# Altium schematic symbol library kmilo17pet-PIC16_Part2.SchLib: 1569 symbols (part 20 of 56)
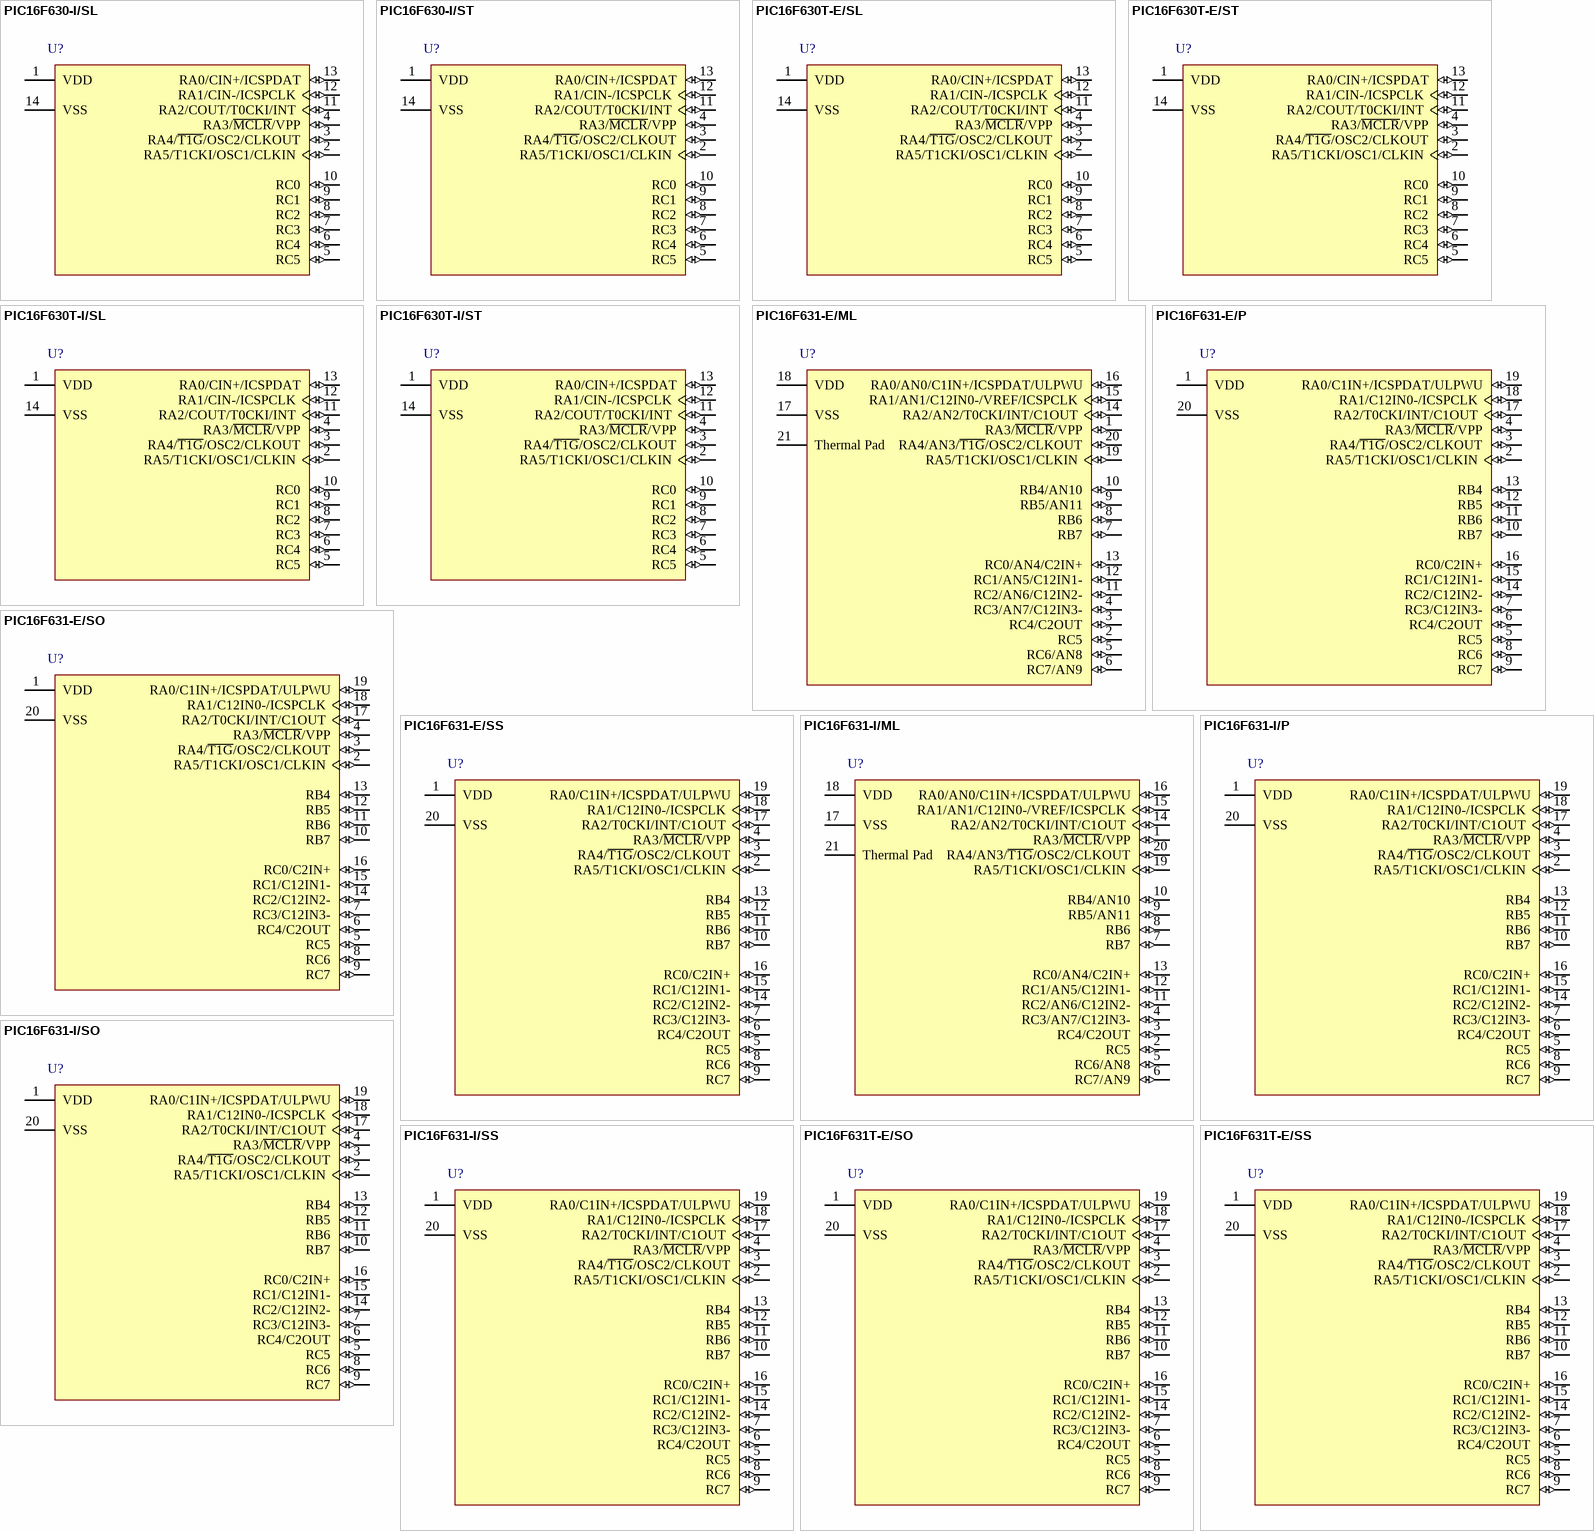
[diagram p144: symbols PIC16F630-I/SL to PIC16F631T-E/SS]

## PIC16F631-I/SO
designator U?
Flash-Based, 8-Bit CMOS Microcontroller with nanoWatt Technology, 1K (x14-Bit words) Program Memory, 192 Bytes Data Memory, 18 I/O pins, 20-Pin SOIC, Standard VDD Range, Industrial Temperature; Manufacturer: Microchip; PartNumber: PIC16F631-I/SO; DatasheetVersion: revE, Mar-2008; PackageVersion: revBB, Aug-2009; PackageReference: SOIC-SO20; PackageDescription: 20-Lead Plastic Small Outline (SO) - Wide 7.50mm Body [SOIC]; Supplier 1: Digi-Key; Supplier Part Number 1: PIC16F631-I/SO-ND; Supplier 2: Farnell; Supplier Part Number 2: 1332203; Supplier 3: Newark; Supplier Part Number 3: 56J7501; Supplier 4: Newark; Supplier Part Number 4: 34M7982; Supplier 5: Mouser; Supplier Part Number 5: 579-PIC16F631-I/SO; Code_JEDEC: MS-013-AC; Code_IPC: SOIC127P1030-20; ComponentLink1Description: Manufacturer URL; ComponentLink1URL: http://www.microchip.com/; ComponentLink2Description: Datasheet; ComponentLink2URL: http://ww1.microchip.com/downloads/en/DeviceDoc/41262E.pdf; ComponentLink3Description: Package Specification; ComponentLink3URL: http://www.microchip.com/stellent/groups/techpub_sg/documents/packagingspec/en012702.pdf
footprint SOIC-SO20_N (SOIC, 20-Leads, Body 12.8x7.5mm, Pitch 1.27mm, IPC Medium Density)
footprint SOIC-SO20_L (SOIC, 20-Leads, Body 12.8x7.5mm, Pitch 1.27mm, IPC High Density)
footprint SOIC-SO20_M (SOIC, 20-Leads, Body 12.8x7.5mm, Pitch 1.27mm, IPC Low Density)
pins: 1 VDD (power), 2 RA5/T1CKI/OSC1/CLKIN (io), 3 RA4/~{T1G}/OSC2/CLKOUT (io), 4 RA3/~{MCLR}/VPP (io), 5 RC5 (io), 6 RC4/C2OUT (io), 7 RC3/C12IN3- (io), 8 RC6 (io), 9 RC7 (io), 10 RB7 (io), 11 RB6 (io), 12 RB5 (io), 13 RB4 (io), 14 RC2/C12IN2- (io), 15 RC1/C12IN1- (io), 16 RC0/C2IN+ (io), 17 RA2/T0CKI/INT/C1OUT (io), 18 RA1/C12IN0-/ICSPCLK (io), 19 RA0/C1IN+/ICSPDAT/ULPWU (io), 20 VSS (power)

## PIC16F631-I/SS
designator U?
Flash-Based, 8-Bit CMOS Microcontroller with nanoWatt Technology, 1K (x14-Bit words) Program Memory, 192 Bytes Data Memory, 18 I/O pins, 20-Pin SSOP, Standard VDD Range, Industrial Temperature; Manufacturer: Microchip; PartNumber: PIC16F631-I/SS; DatasheetVersion: revE, Mar-2008; PackageVersion: revBB, Aug-2009; PackageReference: SSOP-SS20; PackageDescription: 20-Lead Plastic Shrink Small Outline (SS) - 5.3mm Body [SSOP]; Supplier 1: Digi-Key; Supplier Part Number 1: PIC16F631-I/SS-ND; Supplier 2: Farnell; Supplier Part Number 2: 1332204; Supplier 3: Newark; Supplier Part Number 3: 56J7502; Supplier 4: Mouser; Supplier Part Number 4: 579-PIC16F631-I/SS; Code_JEDEC: MO-150; ComponentLink1Description: Manufacturer URL; ComponentLink1URL: http://www.microchip.com/; ComponentLink2Description: Datasheet; ComponentLink2URL: http://ww1.microchip.com/downloads/en/DeviceDoc/41262E.pdf; ComponentLink3Description: Package Specification; ComponentLink3URL: http://www.microchip.com/stellent/groups/techpub_sg/documents/packagingspec/en012702.pdf
footprint SSOP-SS20_N (SOP, 20-Leads, Body 7.2x5.2mm, Pitch 0.65mm, IPC Medium Density)
footprint SSOP-SS20_L (SOP, 20-Leads, Body 7.2x5.2mm, Pitch 0.65mm, IPC High Density)
footprint SSOP-SS20_M (SOP, 20-Leads, Body 7.2x5.2mm, Pitch 0.65mm, IPC Low Density)
pins: 1 VDD (power), 2 RA5/T1CKI/OSC1/CLKIN (io), 3 RA4/~{T1G}/OSC2/CLKOUT (io), 4 RA3/~{MCLR}/VPP (io), 5 RC5 (io), 6 RC4/C2OUT (io), 7 RC3/C12IN3- (io), 8 RC6 (io), 9 RC7 (io), 10 RB7 (io), 11 RB6 (io), 12 RB5 (io), 13 RB4 (io), 14 RC2/C12IN2- (io), 15 RC1/C12IN1- (io), 16 RC0/C2IN+ (io), 17 RA2/T0CKI/INT/C1OUT (io), 18 RA1/C12IN0-/ICSPCLK (io), 19 RA0/C1IN+/ICSPDAT/ULPWU (io), 20 VSS (power)

## PIC16F631T-E/SO
designator U?
Flash-Based, 8-Bit CMOS Microcontroller with nanoWatt Technology, 1K (x14-Bit words) Program Memory, 192 Bytes Data Memory, 18 I/O pins, 20-Pin SOIC, Standard VDD Range, Extended Temperature, Tape and Reel; Manufacturer: Microchip; PartNumber: PIC16F631T-E/SO; DatasheetVersion: revE, Mar-2008; PackageVersion: revBB, Aug-2009; PackageReference: SOIC-SO20; PackageDescription: 20-Lead Plastic Small Outline (SO) - Wide 7.50mm Body [SOIC]; Code_JEDEC: MS-013-AC; Code_IPC: SOIC127P1030-20; ComponentLink1Description: Manufacturer URL; ComponentLink1URL: http://www.microchip.com/; ComponentLink2Description: Datasheet; ComponentLink2URL: http://ww1.microchip.com/downloads/en/DeviceDoc/41262E.pdf; ComponentLink3Description: Package Specification; ComponentLink3URL: http://www.microchip.com/stellent/groups/techpub_sg/documents/packagingspec/en012702.pdf
footprint SOIC-SO20_N (SOIC, 20-Leads, Body 12.8x7.5mm, Pitch 1.27mm, IPC Medium Density)
footprint SOIC-SO20_L (SOIC, 20-Leads, Body 12.8x7.5mm, Pitch 1.27mm, IPC High Density)
footprint SOIC-SO20_M (SOIC, 20-Leads, Body 12.8x7.5mm, Pitch 1.27mm, IPC Low Density)
pins: 1 VDD (power), 2 RA5/T1CKI/OSC1/CLKIN (io), 3 RA4/~{T1G}/OSC2/CLKOUT (io), 4 RA3/~{MCLR}/VPP (io), 5 RC5 (io), 6 RC4/C2OUT (io), 7 RC3/C12IN3- (io), 8 RC6 (io), 9 RC7 (io), 10 RB7 (io), 11 RB6 (io), 12 RB5 (io), 13 RB4 (io), 14 RC2/C12IN2- (io), 15 RC1/C12IN1- (io), 16 RC0/C2IN+ (io), 17 RA2/T0CKI/INT/C1OUT (io), 18 RA1/C12IN0-/ICSPCLK (io), 19 RA0/C1IN+/ICSPDAT/ULPWU (io), 20 VSS (power)

## PIC16F631T-E/SS
designator U?
Flash-Based, 8-Bit CMOS Microcontroller with nanoWatt Technology, 1K (x14-Bit words) Program Memory, 192 Bytes Data Memory, 18 I/O pins, 20-Pin SSOP, Standard VDD Range, Extended Temperature, Tape and Reel; Manufacturer: Microchip; PartNumber: PIC16F631T-E/SS; DatasheetVersion: revE, Mar-2008; PackageVersion: revBB, Aug-2009; PackageReference: SSOP-SS20; PackageDescription: 20-Lead Plastic Shrink Small Outline (SS) - 5.3mm Body [SSOP]; Supplier 1: Digi-Key; Supplier Part Number 1: PIC16F631T-E/SS-ND; Supplier 2: Mouser; Supplier Part Number 2: 579-PIC16F631T-E/SS; Code_JEDEC: MO-150; ComponentLink1Description: Manufacturer URL; ComponentLink1URL: http://www.microchip.com/; ComponentLink2Description: Datasheet; ComponentLink2URL: http://ww1.microchip.com/downloads/en/DeviceDoc/41262E.pdf; ComponentLink3Description: Package Specification; ComponentLink3URL: http://www.microchip.com/stellent/groups/techpub_sg/documents/packagingspec/en012702.pdf
footprint SSOP-SS20_N (SOP, 20-Leads, Body 7.2x5.2mm, Pitch 0.65mm, IPC Medium Density)
footprint SSOP-SS20_L (SOP, 20-Leads, Body 7.2x5.2mm, Pitch 0.65mm, IPC High Density)
footprint SSOP-SS20_M (SOP, 20-Leads, Body 7.2x5.2mm, Pitch 0.65mm, IPC Low Density)
pins: 1 VDD (power), 2 RA5/T1CKI/OSC1/CLKIN (io), 3 RA4/~{T1G}/OSC2/CLKOUT (io), 4 RA3/~{MCLR}/VPP (io), 5 RC5 (io), 6 RC4/C2OUT (io), 7 RC3/C12IN3- (io), 8 RC6 (io), 9 RC7 (io), 10 RB7 (io), 11 RB6 (io), 12 RB5 (io), 13 RB4 (io), 14 RC2/C12IN2- (io), 15 RC1/C12IN1- (io), 16 RC0/C2IN+ (io), 17 RA2/T0CKI/INT/C1OUT (io), 18 RA1/C12IN0-/ICSPCLK (io), 19 RA0/C1IN+/ICSPDAT/ULPWU (io), 20 VSS (power)

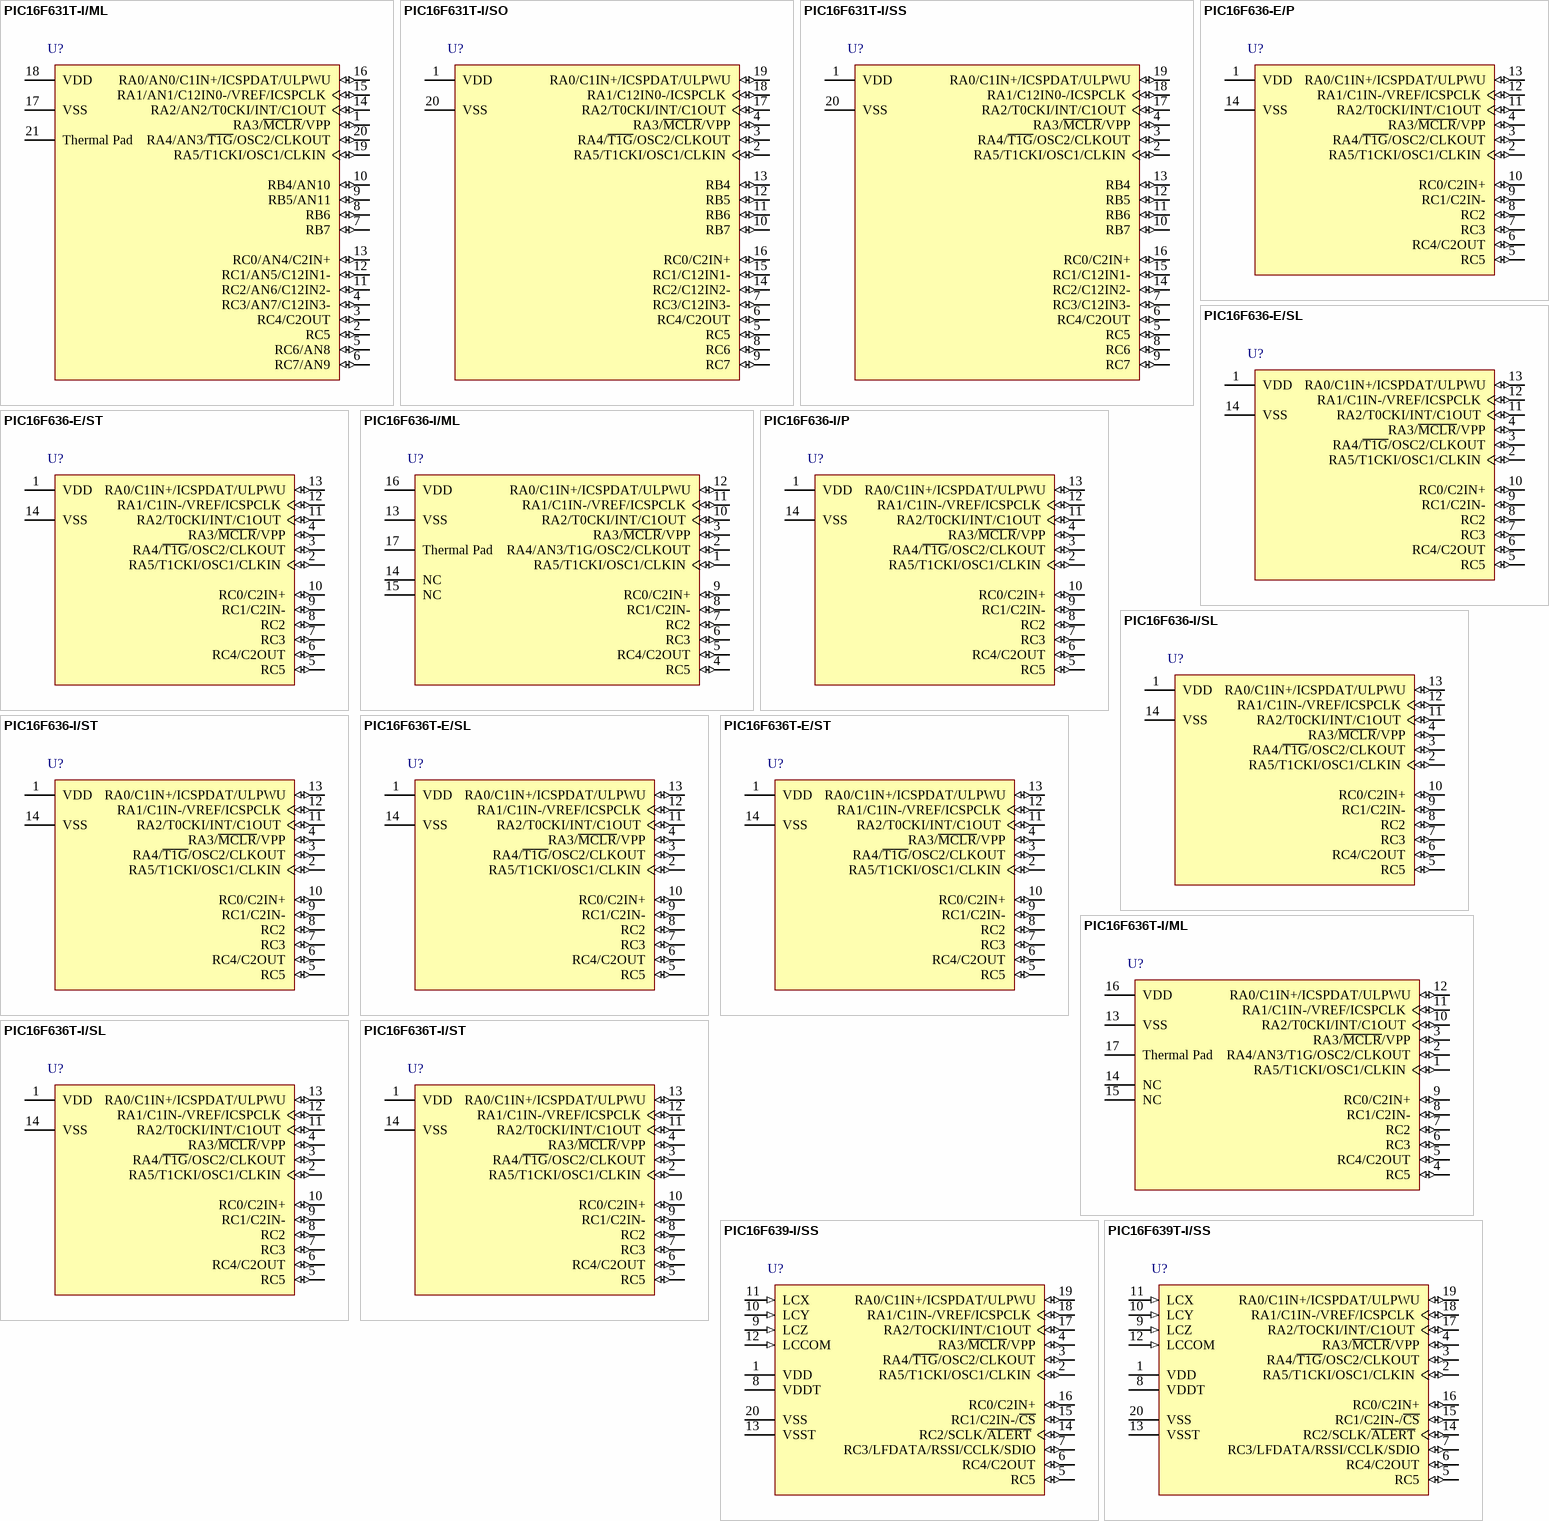
[diagram p38: symbols PIC16F631T-I/ML to PIC16F639T-I/SS]

## PIC16F631T-I/ML
designator U?
Flash-Based, 8-Bit CMOS Microcontroller with nanoWatt Technology, 1K (x14-Bit words) Program Memory, 192 Bytes Data Memory, 18 I/O pins, 20-Pin QFN, Standard VDD Range, Industrial Temperature, Tape and Reel; Manufacturer: Microchip; PartNumber: PIC16F631T-I/ML; DatasheetVersion: revE, Mar-2008; PackageVersion: revBB, Aug-2009; PackageReference: QFN-ML20; PackageDescription: 20-Lead Plastic Quad Flat, No Lead Package (ML) - 4x4x0.9 mm Body [QFN]; Supplier 1: Digi-Key; Supplier Part Number 1: PIC16F631T-I/ML-ND; Supplier 2: Mouser; Supplier Part Number 2: 579-PIC16F631T-I/ML; ComponentLink1Description: Manufacturer URL; ComponentLink1URL: http://www.microchip.com/; ComponentLink2Description: Datasheet; ComponentLink2URL: http://ww1.microchip.com/downloads/en/DeviceDoc/41262E.pdf; ComponentLink3Description: Package Specification; ComponentLink3URL: http://www.microchip.com/stellent/groups/techpub_sg/documents/packagingspec/en012702.pdf
footprint QFN-ML20_N (QFN, 20-Leads, Body 4x4mm, Pitch 0.5mm, Thermal Pad 2.8x2.8mm, IPC Medium Density)
footprint QFN-ML20_L (QFN, 20-Leads, Body 4x4mm, Pitch 0.5mm, Thermal Pad 2.8x2.8mm, IPC High Density)
footprint QFN-ML20_M (QFN, 20-Leads, Body 4x4mm, Pitch 0.5mm, Thermal Pad 2.8x2.8mm, IPC Low Density)
pins: 1 RA3/~{MCLR}/VPP (io), 2 RC5 (io), 3 RC4/C2OUT (io), 4 RC3/AN7/C12IN3- (io), 5 RC6/AN8 (io), 6 RC7/AN9 (io), 7 RB7 (io), 8 RB6 (io), 9 RB5/AN11 (io), 10 RB4/AN10 (io), 11 RC2/AN6/C12IN2- (io), 12 RC1/AN5/C12IN1- (io), 13 RC0/AN4/C2IN+ (io), 14 RA2/AN2/T0CKI/INT/C1OUT (io), 15 RA1/AN1/C12IN0-/VREF/ICSPCLK (io), 16 RA0/AN0/C1IN+/ICSPDAT/ULPWU (io), 17 VSS (power), 18 VDD (power), 19 RA5/T1CKI/OSC1/CLKIN (io), 20 RA4/AN3/~{T1G}/OSC2/CLKOUT (io), 21 Thermal Pad

## PIC16F631T-I/SO
designator U?
Flash-Based, 8-Bit CMOS Microcontroller with nanoWatt Technology, 1K (x14-Bit words) Program Memory, 192 Bytes Data Memory, 18 I/O pins, 20-Pin SOIC, Standard VDD Range, Industrial Temperature, Tape and Reel; Manufacturer: Microchip; PartNumber: PIC16F631T-I/SO; DatasheetVersion: revE, Mar-2008; PackageVersion: revBB, Aug-2009; PackageReference: SOIC-SO20; PackageDescription: 20-Lead Plastic Small Outline (SO) - Wide 7.50mm Body [SOIC]; Supplier 1: Digi-Key; Supplier Part Number 1: PIC16F631T-I/SO-ND; Supplier 2: Mouser; Supplier Part Number 2: 579-PIC16F631T-I/SO; Code_JEDEC: MS-013-AC; Code_IPC: SOIC127P1030-20; ComponentLink1Description: Manufacturer URL; ComponentLink1URL: http://www.microchip.com/; ComponentLink2Description: Datasheet; ComponentLink2URL: http://ww1.microchip.com/downloads/en/DeviceDoc/41262E.pdf; ComponentLink3Description: Package Specification; ComponentLink3URL: http://www.microchip.com/stellent/groups/techpub_sg/documents/packagingspec/en012702.pdf
footprint SOIC-SO20_N (SOIC, 20-Leads, Body 12.8x7.5mm, Pitch 1.27mm, IPC Medium Density)
footprint SOIC-SO20_L (SOIC, 20-Leads, Body 12.8x7.5mm, Pitch 1.27mm, IPC High Density)
footprint SOIC-SO20_M (SOIC, 20-Leads, Body 12.8x7.5mm, Pitch 1.27mm, IPC Low Density)
pins: 1 VDD (power), 2 RA5/T1CKI/OSC1/CLKIN (io), 3 RA4/~{T1G}/OSC2/CLKOUT (io), 4 RA3/~{MCLR}/VPP (io), 5 RC5 (io), 6 RC4/C2OUT (io), 7 RC3/C12IN3- (io), 8 RC6 (io), 9 RC7 (io), 10 RB7 (io), 11 RB6 (io), 12 RB5 (io), 13 RB4 (io), 14 RC2/C12IN2- (io), 15 RC1/C12IN1- (io), 16 RC0/C2IN+ (io), 17 RA2/T0CKI/INT/C1OUT (io), 18 RA1/C12IN0-/ICSPCLK (io), 19 RA0/C1IN+/ICSPDAT/ULPWU (io), 20 VSS (power)

## PIC16F631T-I/SS
designator U?
Flash-Based, 8-Bit CMOS Microcontroller with nanoWatt Technology, 1K (x14-Bit words) Program Memory, 192 Bytes Data Memory, 18 I/O pins, 20-Pin SSOP, Standard VDD Range, Industrial Temperature, Tape and Reel; Manufacturer: Microchip; PartNumber: PIC16F631T-I/SS; DatasheetVersion: revE, Mar-2008; PackageVersion: revBB, Aug-2009; PackageReference: SSOP-SS20; PackageDescription: 20-Lead Plastic Shrink Small Outline (SS) - 5.3mm Body [SSOP]; Supplier 1: Digi-Key; Supplier Part Number 1: PIC16F631T-I/SS-ND; Supplier 2: Mouser; Supplier Part Number 2: 579-PIC16F631T-I/SS; Code_JEDEC: MO-150; ComponentLink1Description: Manufacturer URL; ComponentLink1URL: http://www.microchip.com/; ComponentLink2Description: Datasheet; ComponentLink2URL: http://ww1.microchip.com/downloads/en/DeviceDoc/41262E.pdf; ComponentLink3Description: Package Specification; ComponentLink3URL: http://www.microchip.com/stellent/groups/techpub_sg/documents/packagingspec/en012702.pdf
footprint SSOP-SS20_N (SOP, 20-Leads, Body 7.2x5.2mm, Pitch 0.65mm, IPC Medium Density)
footprint SSOP-SS20_L (SOP, 20-Leads, Body 7.2x5.2mm, Pitch 0.65mm, IPC High Density)
footprint SSOP-SS20_M (SOP, 20-Leads, Body 7.2x5.2mm, Pitch 0.65mm, IPC Low Density)
pins: 1 VDD (power), 2 RA5/T1CKI/OSC1/CLKIN (io), 3 RA4/~{T1G}/OSC2/CLKOUT (io), 4 RA3/~{MCLR}/VPP (io), 5 RC5 (io), 6 RC4/C2OUT (io), 7 RC3/C12IN3- (io), 8 RC6 (io), 9 RC7 (io), 10 RB7 (io), 11 RB6 (io), 12 RB5 (io), 13 RB4 (io), 14 RC2/C12IN2- (io), 15 RC1/C12IN1- (io), 16 RC0/C2IN+ (io), 17 RA2/T0CKI/INT/C1OUT (io), 18 RA1/C12IN0-/ICSPCLK (io), 19 RA0/C1IN+/ICSPDAT/ULPWU (io), 20 VSS (power)

## PIC16F636-E/P
designator U?
Flash-Based 8-Bit CMOS Microcontroller with nanoWatt Technology, 2K (x14-Bit words) Program Memory, 384 Bytes Data Memory, 12 I/O pins, 14-Pin PDIP, Standard VDD Range, Extended Temperature; Manufacturer: Microchip; PartNumber: PIC16F636-E/P; DatasheetVersion: revD, Mar-2007; PackageVersion: revBB, Aug-2009; PackageReference: PDIP300-P14; PackageDescription: 14-Lead Plastic Dual In-Line (P) - 300 mil Body [PDIP]; Supplier 1: Digi-Key; Supplier Part Number 1: PIC16F636-E/P-ND; Supplier 2: Mouser; Supplier Part Number 2: 579-PIC16F636-E/P; ComponentLink1Description: Manufacturer URL; ComponentLink1URL: http://www.microchip.com/; ComponentLink2Description: Datasheet; ComponentLink2URL: http://ww1.microchip.com/downloads/en/DeviceDoc/41232D.pdf; ComponentLink3Description: Package Specification; ComponentLink3URL: http://www.microchip.com/stellent/groups/techpub_sg/documents/packagingspec/en012702.pdf
footprint PDIP300-P14 (DIP, 14-Leads, Row Spacing 7.62mm, Pitch 2.54mm, Body 19.2x6.6mm)
pins: 1 VDD (power), 2 RA5/T1CKI/OSC1/CLKIN (io), 3 RA4/~{T1G}/OSC2/CLKOUT (io), 4 RA3/~{MCLR}/VPP (io), 5 RC5 (io), 6 RC4/C2OUT (io), 7 RC3 (io), 8 RC2 (io), 9 RC1/C2IN- (io), 10 RC0/C2IN+ (io), 11 RA2/T0CKI/INT/C1OUT (io), 12 RA1/C1IN-/VREF/ICSPCLK (io), 13 RA0/C1IN+/ICSPDAT/ULPWU (io), 14 VSS (power)

## PIC16F636-E/SL
designator U?
Flash-Based 8-Bit CMOS Microcontroller with nanoWatt Technology, 2K (x14-Bit words) Program Memory, 384 Bytes Data Memory, 12 I/O pins, 14-Pin SOIC, Standard VDD Range, Extended Temperature; Manufacturer: Microchip; PartNumber: PIC16F636-E/SL; DatasheetVersion: revD, Mar-2007; PackageVersion: revBB, Aug-2009; PackageReference: SOIC-SL14; PackageDescription: 14-Lead Plastic Small Outline (SL) - Narrow, 3.90mm Body [SOIC]; Supplier 1: Digi-Key; Supplier Part Number 1: PIC16F636-E/SL-ND; Supplier 2: Mouser; Supplier Part Number 2: 579-PIC16F636-E/SL; Code_JEDEC: MS-012-AB; Code_IPC: SOIC127P600-14; ComponentLink1Description: Manufacturer URL; ComponentLink1URL: http://www.microchip.com/; ComponentLink2Description: Datasheet; ComponentLink2URL: http://ww1.microchip.com/downloads/en/DeviceDoc/41232D.pdf; ComponentLink3Description: Package Specification; ComponentLink3URL: http://www.microchip.com/stellent/groups/techpub_sg/documents/packagingspec/en012702.pdf
footprint SOIC-SL14_N (SOIC, 14-Leads, Body 8.7x3.9mm, Pitch 1.27mm, IPC Medium Density)
footprint SOIC-SL14_L (SOIC, 14-Leads, Body 8.7x3.9mm, Pitch 1.27mm, IPC High Density)
footprint SOIC-SL14_M (SOIC, 14-Leads, Body 8.7x3.9mm, Pitch 1.27mm, IPC Low Density)
pins: 1 VDD (power), 2 RA5/T1CKI/OSC1/CLKIN (io), 3 RA4/~{T1G}/OSC2/CLKOUT (io), 4 RA3/~{MCLR}/VPP (io), 5 RC5 (io), 6 RC4/C2OUT (io), 7 RC3 (io), 8 RC2 (io), 9 RC1/C2IN- (io), 10 RC0/C2IN+ (io), 11 RA2/T0CKI/INT/C1OUT (io), 12 RA1/C1IN-/VREF/ICSPCLK (io), 13 RA0/C1IN+/ICSPDAT/ULPWU (io), 14 VSS (power)

## PIC16F636-E/ST
designator U?
Flash-Based 8-Bit CMOS Microcontroller with nanoWatt Technology, 2K (x14-Bit words) Program Memory, 384 Bytes Data Memory, 12 I/O pins, 14-Pin TSSOP, Standard VDD Range, Extended Temperature; Manufacturer: Microchip; PartNumber: PIC16F636-E/ST; DatasheetVersion: revD, Mar-2007; PackageVersion: revBB, Aug-2009; PackageReference: TSSOP-ST14; PackageDescription: 14-Lead Plastic Thin Shrink Small Outline (ST) - 4.4mm Body [TSSOP]; Supplier 1: Digi-Key; Supplier Part Number 1: PIC16F636-E/ST-ND; Supplier 2: Mouser; Supplier Part Number 2: 579-PIC16F636-E/ST; ComponentLink1Description: Manufacturer URL; ComponentLink1URL: http://www.microchip.com/; ComponentLink2Description: Datasheet; ComponentLink2URL: http://ww1.microchip.com/downloads/en/DeviceDoc/41232D.pdf; ComponentLink3Description: Package Specification; ComponentLink3URL: http://www.microchip.com/stellent/groups/techpub_sg/documents/packagingspec/en012702.pdf
footprint TSSOP-ST14_N (TSOP, 14-Leads, Body 5x4.4mm, Pitch 0.65mm, IPC Medium Density)
footprint TSSOP-ST14_L (TSOP, 14-Leads, Body 5x4.4mm, Pitch 0.65mm, IPC High Density)
footprint TSSOP-ST14_M (TSOP, 14-Leads, Body 5x4.4mm, Pitch 0.65mm, IPC Low Density)
pins: 1 VDD (power), 2 RA5/T1CKI/OSC1/CLKIN (io), 3 RA4/~{T1G}/OSC2/CLKOUT (io), 4 RA3/~{MCLR}/VPP (io), 5 RC5 (io), 6 RC4/C2OUT (io), 7 RC3 (io), 8 RC2 (io), 9 RC1/C2IN- (io), 10 RC0/C2IN+ (io), 11 RA2/T0CKI/INT/C1OUT (io), 12 RA1/C1IN-/VREF/ICSPCLK (io), 13 RA0/C1IN+/ICSPDAT/ULPWU (io), 14 VSS (power)

## PIC16F636-I/ML
designator U?
Flash-Based 8-Bit CMOS Microcontroller with nanoWatt Technology, 2K (x14-Bit words) Program Memory, 384 Bytes Data Memory, 12 I/O pins, 16-Pin QFN, Standard VDD Range, Industrial Temperature; Manufacturer: Microchip; PartNumber: PIC16F636-I/ML; DatasheetVersion: revD, Mar-2007; PackageVersion: revBB, Aug-2009; PackageReference: QFN-ML16; PackageDescription: 16-Lead Plastic Quad Flat, No Lead Package (ML) - 4x4x0.9 mm Body [QFN]; Supplier 1: Digi-Key; Supplier Part Number 1: PIC16F636-I/ML-ND; Supplier 2: Farnell; Supplier Part Number 2: 1847268; Supplier 3: Newark; Supplier Part Number 3: 56K7265; Supplier 4: Mouser; Supplier Part Number 4: 579-PIC16F636-I/ML; Code_JEDEC: MO-220; Code_IPC: QFN65P400X400-16V2; ComponentLink1Description: Manufacturer URL; ComponentLink1URL: http://www.microchip.com/; ComponentLink2Description: Datasheet; ComponentLink2URL: http://ww1.microchip.com/downloads/en/DeviceDoc/41232D.pdf; ComponentLink3Description: Package Specification; ComponentLink3URL: http://www.microchip.com/stellent/groups/techpub_sg/documents/packagingspec/en012702.pdf
footprint QFN-ML16_N (QFN, 16-Leads, Body 4x4mm, Pitch 0.65mm, Thermal Pad 2.8x2.8mm, IPC Medium Density)
footprint QFN-ML16_L (QFN, 16-Leads, Body 4x4mm, Pitch 0.65mm, Thermal Pad 2.8x2.8mm, IPC High Density)
footprint QFN-ML16_M (QFN, 16-Leads, Body 4x4mm, Pitch 0.65mm, Thermal Pad 2.8x2.8mm, IPC Low Density)
pins: 1 RA5/T1CKI/OSC1/CLKIN (io), 2 RA4/AN3/T1G/OSC2/CLKOUT (io), 3 RA3/~{MCLR}/VPP (io), 4 RC5 (io), 5 RC4/C2OUT (io), 6 RC3 (io), 7 RC2 (io), 8 RC1/C2IN- (io), 9 RC0/C2IN+ (io), 10 RA2/T0CKI/INT/C1OUT (io), 11 RA1/C1IN-/VREF/ICSPCLK (io), 12 RA0/C1IN+/ICSPDAT/ULPWU (io), 13 VSS (power), 14 NC, 15 NC, 16 VDD (power), 17 Thermal Pad

## PIC16F636-I/P
designator U?
Flash-Based 8-Bit CMOS Microcontroller with nanoWatt Technology, 2K (x14-Bit words) Program Memory, 384 Bytes Data Memory, 12 I/O pins, 14-Pin PDIP, Standard VDD Range, Industrial Temperature; Manufacturer: Microchip; PartNumber: PIC16F636-I/P; DatasheetVersion: revD, Mar-2007; PackageVersion: revBB, Aug-2009; PackageReference: PDIP300-P14; PackageDescription: 14-Lead Plastic Dual In-Line (P) - 300 mil Body [PDIP]; Supplier 1: Digi-Key; Supplier Part Number 1: PIC16F636-I/P-ND; Supplier 2: Farnell; Supplier Part Number 2: 1556175; Supplier 3: Newark; Supplier Part Number 3: 80K6047; Supplier 4: Mouser; Supplier Part Number 4: 579-PIC16F636-I/P; ComponentLink1Description: Manufacturer URL; ComponentLink1URL: http://www.microchip.com/; ComponentLink2Description: Datasheet; ComponentLink2URL: http://ww1.microchip.com/downloads/en/DeviceDoc/41232D.pdf; ComponentLink3Description: Package Specification; ComponentLink3URL: http://www.microchip.com/stellent/groups/techpub_sg/documents/packagingspec/en012702.pdf
footprint PDIP300-P14 (DIP, 14-Leads, Row Spacing 7.62mm, Pitch 2.54mm, Body 19.2x6.6mm)
pins: 1 VDD (power), 2 RA5/T1CKI/OSC1/CLKIN (io), 3 RA4/~{T1G}/OSC2/CLKOUT (io), 4 RA3/~{MCLR}/VPP (io), 5 RC5 (io), 6 RC4/C2OUT (io), 7 RC3 (io), 8 RC2 (io), 9 RC1/C2IN- (io), 10 RC0/C2IN+ (io), 11 RA2/T0CKI/INT/C1OUT (io), 12 RA1/C1IN-/VREF/ICSPCLK (io), 13 RA0/C1IN+/ICSPDAT/ULPWU (io), 14 VSS (power)

## PIC16F636-I/SL
designator U?
Flash-Based 8-Bit CMOS Microcontroller with nanoWatt Technology, 2K (x14-Bit words) Program Memory, 384 Bytes Data Memory, 12 I/O pins, 14-Pin SOIC, Standard VDD Range, Industrial Temperature; Manufacturer: Microchip; PartNumber: PIC16F636-I/SL; DatasheetVersion: revD, Mar-2007; PackageVersion: revBB, Aug-2009; PackageReference: SOIC-SL14; PackageDescription: 14-Lead Plastic Small Outline (SL) - Narrow, 3.90mm Body [SOIC]; Supplier 1: Digi-Key; Supplier Part Number 1: PIC16F636-I/SL-ND; Supplier 2: Farnell; Supplier Part Number 2: 1212713; Supplier 3: Newark; Supplier Part Number 3: 24M5897; Supplier 4: Newark; Supplier Part Number 4: 89H0483; Supplier 5: Mouser; Supplier Part Number 5: 579-PIC16F636-I/SL; Code_JEDEC: MS-012-AB; Code_IPC: SOIC127P600-14; ComponentLink1Description: Manufacturer URL; ComponentLink1URL: http://www.microchip.com/; ComponentLink2Description: Datasheet; ComponentLink2URL: http://ww1.microchip.com/downloads/en/DeviceDoc/41232D.pdf; ComponentLink3Description: Package Specification; ComponentLink3URL: http://www.microchip.com/stellent/groups/techpub_sg/documents/packagingspec/en012702.pdf
footprint SOIC-SL14_N (SOIC, 14-Leads, Body 8.7x3.9mm, Pitch 1.27mm, IPC Medium Density)
footprint SOIC-SL14_L (SOIC, 14-Leads, Body 8.7x3.9mm, Pitch 1.27mm, IPC High Density)
footprint SOIC-SL14_M (SOIC, 14-Leads, Body 8.7x3.9mm, Pitch 1.27mm, IPC Low Density)
pins: 1 VDD (power), 2 RA5/T1CKI/OSC1/CLKIN (io), 3 RA4/~{T1G}/OSC2/CLKOUT (io), 4 RA3/~{MCLR}/VPP (io), 5 RC5 (io), 6 RC4/C2OUT (io), 7 RC3 (io), 8 RC2 (io), 9 RC1/C2IN- (io), 10 RC0/C2IN+ (io), 11 RA2/T0CKI/INT/C1OUT (io), 12 RA1/C1IN-/VREF/ICSPCLK (io), 13 RA0/C1IN+/ICSPDAT/ULPWU (io), 14 VSS (power)

## PIC16F636-I/ST
designator U?
Flash-Based 8-Bit CMOS Microcontroller with nanoWatt Technology, 2K (x14-Bit words) Program Memory, 384 Bytes Data Memory, 12 I/O pins, 14-Pin TSSOP, Standard VDD Range, Industrial Temperature; Manufacturer: Microchip; PartNumber: PIC16F636-I/ST; DatasheetVersion: revD, Mar-2007; PackageVersion: revBB, Aug-2009; PackageReference: TSSOP-ST14; PackageDescription: 14-Lead Plastic Thin Shrink Small Outline (ST) - 4.4mm Body [TSSOP]; Supplier 1: Digi-Key; Supplier Part Number 1: PIC16F636-I/ST-ND; Supplier 2: Farnell; Supplier Part Number 2: 1292259; Supplier 3: Newark; Supplier Part Number 3: 24M5898; Supplier 4: Newark; Supplier Part Number 4: 89H0484; Supplier 5: Mouser; Supplier Part Number 5: 579-PIC16F636-I/ST; ComponentLink1Description: Manufacturer URL; ComponentLink1URL: http://www.microchip.com/; ComponentLink2Description: Datasheet; ComponentLink2URL: http://ww1.microchip.com/downloads/en/DeviceDoc/41232D.pdf; ComponentLink3Description: Package Specification; ComponentLink3URL: http://www.microchip.com/stellent/groups/techpub_sg/documents/packagingspec/en012702.pdf
footprint TSSOP-ST14_N (TSOP, 14-Leads, Body 5x4.4mm, Pitch 0.65mm, IPC Medium Density)
footprint TSSOP-ST14_L (TSOP, 14-Leads, Body 5x4.4mm, Pitch 0.65mm, IPC High Density)
footprint TSSOP-ST14_M (TSOP, 14-Leads, Body 5x4.4mm, Pitch 0.65mm, IPC Low Density)
pins: 1 VDD (power), 2 RA5/T1CKI/OSC1/CLKIN (io), 3 RA4/~{T1G}/OSC2/CLKOUT (io), 4 RA3/~{MCLR}/VPP (io), 5 RC5 (io), 6 RC4/C2OUT (io), 7 RC3 (io), 8 RC2 (io), 9 RC1/C2IN- (io), 10 RC0/C2IN+ (io), 11 RA2/T0CKI/INT/C1OUT (io), 12 RA1/C1IN-/VREF/ICSPCLK (io), 13 RA0/C1IN+/ICSPDAT/ULPWU (io), 14 VSS (power)

## PIC16F636T-E/SL
designator U?
Flash-Based 8-Bit CMOS Microcontroller with nanoWatt Technology, 2K (x14-Bit words) Program Memory, 384 Bytes Data Memory, 12 I/O pins, 14-Pin SOIC, Standard VDD Range, Extended Temperature, Tape and Reel; Manufacturer: Microchip; PartNumber: PIC16F636T-E/SL; DatasheetVersion: revD, Mar-2007; PackageVersion: revBB, Aug-2009; PackageReference: SOIC-SL14; PackageDescription: 14-Lead Plastic Small Outline (SL) - Narrow, 3.90mm Body [SOIC]; Code_JEDEC: MS-012-AB; Code_IPC: SOIC127P600-14; ComponentLink1Description: Manufacturer URL; ComponentLink1URL: http://www.microchip.com/; ComponentLink2Description: Datasheet; ComponentLink2URL: http://ww1.microchip.com/downloads/en/DeviceDoc/41232D.pdf; ComponentLink3Description: Package Specification; ComponentLink3URL: http://www.microchip.com/stellent/groups/techpub_sg/documents/packagingspec/en012702.pdf
footprint SOIC-SL14_N (SOIC, 14-Leads, Body 8.7x3.9mm, Pitch 1.27mm, IPC Medium Density)
footprint SOIC-SL14_L (SOIC, 14-Leads, Body 8.7x3.9mm, Pitch 1.27mm, IPC High Density)
footprint SOIC-SL14_M (SOIC, 14-Leads, Body 8.7x3.9mm, Pitch 1.27mm, IPC Low Density)
pins: 1 VDD (power), 2 RA5/T1CKI/OSC1/CLKIN (io), 3 RA4/~{T1G}/OSC2/CLKOUT (io), 4 RA3/~{MCLR}/VPP (io), 5 RC5 (io), 6 RC4/C2OUT (io), 7 RC3 (io), 8 RC2 (io), 9 RC1/C2IN- (io), 10 RC0/C2IN+ (io), 11 RA2/T0CKI/INT/C1OUT (io), 12 RA1/C1IN-/VREF/ICSPCLK (io), 13 RA0/C1IN+/ICSPDAT/ULPWU (io), 14 VSS (power)

## PIC16F636T-E/ST
designator U?
Flash-Based 8-Bit CMOS Microcontroller with nanoWatt Technology, 2K (x14-Bit words) Program Memory, 384 Bytes Data Memory, 12 I/O pins, 14-Pin TSSOP, Standard VDD Range, Extended Temperature, Tape and Reel; Manufacturer: Microchip; PartNumber: PIC16F636T-E/ST; DatasheetVersion: revD, Mar-2007; PackageVersion: revBB, Aug-2009; PackageReference: TSSOP-ST14; PackageDescription: 14-Lead Plastic Thin Shrink Small Outline (ST) - 4.4mm Body [TSSOP]; ComponentLink1Description: Manufacturer URL; ComponentLink1URL: http://www.microchip.com/; ComponentLink2Description: Datasheet; ComponentLink2URL: http://ww1.microchip.com/downloads/en/DeviceDoc/41232D.pdf; ComponentLink3Description: Package Specification; ComponentLink3URL: http://www.microchip.com/stellent/groups/techpub_sg/documents/packagingspec/en012702.pdf
footprint TSSOP-ST14_N (TSOP, 14-Leads, Body 5x4.4mm, Pitch 0.65mm, IPC Medium Density)
footprint TSSOP-ST14_L (TSOP, 14-Leads, Body 5x4.4mm, Pitch 0.65mm, IPC High Density)
footprint TSSOP-ST14_M (TSOP, 14-Leads, Body 5x4.4mm, Pitch 0.65mm, IPC Low Density)
pins: 1 VDD (power), 2 RA5/T1CKI/OSC1/CLKIN (io), 3 RA4/~{T1G}/OSC2/CLKOUT (io), 4 RA3/~{MCLR}/VPP (io), 5 RC5 (io), 6 RC4/C2OUT (io), 7 RC3 (io), 8 RC2 (io), 9 RC1/C2IN- (io), 10 RC0/C2IN+ (io), 11 RA2/T0CKI/INT/C1OUT (io), 12 RA1/C1IN-/VREF/ICSPCLK (io), 13 RA0/C1IN+/ICSPDAT/ULPWU (io), 14 VSS (power)

## PIC16F636T-I/ML
designator U?
Flash-Based 8-Bit CMOS Microcontroller with nanoWatt Technology, 2K (x14-Bit words) Program Memory, 384 Bytes Data Memory, 12 I/O pins, 16-Pin QFN, Standard VDD Range, Industrial Temperature, Tape and Reel; Manufacturer: Microchip; PartNumber: PIC16F636T-I/ML; DatasheetVersion: revD, Mar-2007; PackageVersion: revBB, Aug-2009; PackageReference: QFN-ML16; PackageDescription: 16-Lead Plastic Quad Flat, No Lead Package (ML) - 4x4x0.9 mm Body [QFN]; Supplier 1: Digi-Key; Supplier Part Number 1: PIC16F636T-I/ML-ND; Supplier 2: Newark; Supplier Part Number 2: 56K7266; Supplier 3: Mouser; Supplier Part Number 3: 579-PIC16F636T-I/ML; Code_JEDEC: MO-220; Code_IPC: QFN65P400X400-16V2; ComponentLink1Description: Manufacturer URL; ComponentLink1URL: http://www.microchip.com/; ComponentLink2Description: Datasheet; ComponentLink2URL: http://ww1.microchip.com/downloads/en/DeviceDoc/41232D.pdf; ComponentLink3Description: Package Specification; ComponentLink3URL: http://www.microchip.com/stellent/groups/techpub_sg/documents/packagingspec/en012702.pdf
footprint QFN-ML16_N (QFN, 16-Leads, Body 4x4mm, Pitch 0.65mm, Thermal Pad 2.8x2.8mm, IPC Medium Density)
footprint QFN-ML16_L (QFN, 16-Leads, Body 4x4mm, Pitch 0.65mm, Thermal Pad 2.8x2.8mm, IPC High Density)
footprint QFN-ML16_M (QFN, 16-Leads, Body 4x4mm, Pitch 0.65mm, Thermal Pad 2.8x2.8mm, IPC Low Density)
pins: 1 RA5/T1CKI/OSC1/CLKIN (io), 2 RA4/AN3/T1G/OSC2/CLKOUT (io), 3 RA3/~{MCLR}/VPP (io), 4 RC5 (io), 5 RC4/C2OUT (io), 6 RC3 (io), 7 RC2 (io), 8 RC1/C2IN- (io), 9 RC0/C2IN+ (io), 10 RA2/T0CKI/INT/C1OUT (io), 11 RA1/C1IN-/VREF/ICSPCLK (io), 12 RA0/C1IN+/ICSPDAT/ULPWU (io), 13 VSS (power), 14 NC, 15 NC, 16 VDD (power), 17 Thermal Pad

## PIC16F636T-I/SL
designator U?
Flash-Based 8-Bit CMOS Microcontroller with nanoWatt Technology, 2K (x14-Bit words) Program Memory, 384 Bytes Data Memory, 12 I/O pins, 14-Pin SOIC, Standard VDD Range, Industrial Temperature, Tape and Reel; Manufacturer: Microchip; PartNumber: PIC16F636T-I/SL; DatasheetVersion: revD, Mar-2007; PackageVersion: revBB, Aug-2009; PackageReference: SOIC-SL14; PackageDescription: 14-Lead Plastic Small Outline (SL) - Narrow, 3.90mm Body [SOIC]; Supplier 1: Digi-Key; Supplier Part Number 1: PIC16F636T-I/SL-ND; Supplier 2: Mouser; Supplier Part Number 2: 579-PIC16F636T-I/SL; Code_JEDEC: MS-012-AB; Code_IPC: SOIC127P600-14; ComponentLink1Description: Manufacturer URL; ComponentLink1URL: http://www.microchip.com/; ComponentLink2Description: Datasheet; ComponentLink2URL: http://ww1.microchip.com/downloads/en/DeviceDoc/41232D.pdf; ComponentLink3Description: Package Specification; ComponentLink3URL: http://www.microchip.com/stellent/groups/techpub_sg/documents/packagingspec/en012702.pdf
footprint SOIC-SL14_N (SOIC, 14-Leads, Body 8.7x3.9mm, Pitch 1.27mm, IPC Medium Density)
footprint SOIC-SL14_L (SOIC, 14-Leads, Body 8.7x3.9mm, Pitch 1.27mm, IPC High Density)
footprint SOIC-SL14_M (SOIC, 14-Leads, Body 8.7x3.9mm, Pitch 1.27mm, IPC Low Density)
pins: 1 VDD (power), 2 RA5/T1CKI/OSC1/CLKIN (io), 3 RA4/~{T1G}/OSC2/CLKOUT (io), 4 RA3/~{MCLR}/VPP (io), 5 RC5 (io), 6 RC4/C2OUT (io), 7 RC3 (io), 8 RC2 (io), 9 RC1/C2IN- (io), 10 RC0/C2IN+ (io), 11 RA2/T0CKI/INT/C1OUT (io), 12 RA1/C1IN-/VREF/ICSPCLK (io), 13 RA0/C1IN+/ICSPDAT/ULPWU (io), 14 VSS (power)

## PIC16F636T-I/ST
designator U?
Flash-Based 8-Bit CMOS Microcontroller with nanoWatt Technology, 2K (x14-Bit words) Program Memory, 384 Bytes Data Memory, 12 I/O pins, 14-Pin TSSOP, Standard VDD Range, Industrial Temperature, Tape and Reel; Manufacturer: Microchip; PartNumber: PIC16F636T-I/ST; DatasheetVersion: revD, Mar-2007; PackageVersion: revBB, Aug-2009; PackageReference: TSSOP-ST14; PackageDescription: 14-Lead Plastic Thin Shrink Small Outline (ST) - 4.4mm Body [TSSOP]; Supplier 1: Digi-Key; Supplier Part Number 1: PIC16F636T-I/ST-ND; Supplier 2: Mouser; Supplier Part Number 2: 579-PIC16F636T-I/ST; ComponentLink1Description: Manufacturer URL; ComponentLink1URL: http://www.microchip.com/; ComponentLink2Description: Datasheet; ComponentLink2URL: http://ww1.microchip.com/downloads/en/DeviceDoc/41232D.pdf; ComponentLink3Description: Package Specification; ComponentLink3URL: http://www.microchip.com/stellent/groups/techpub_sg/documents/packagingspec/en012702.pdf
footprint TSSOP-ST14_N (TSOP, 14-Leads, Body 5x4.4mm, Pitch 0.65mm, IPC Medium Density)
footprint TSSOP-ST14_L (TSOP, 14-Leads, Body 5x4.4mm, Pitch 0.65mm, IPC High Density)
footprint TSSOP-ST14_M (TSOP, 14-Leads, Body 5x4.4mm, Pitch 0.65mm, IPC Low Density)
pins: 1 VDD (power), 2 RA5/T1CKI/OSC1/CLKIN (io), 3 RA4/~{T1G}/OSC2/CLKOUT (io), 4 RA3/~{MCLR}/VPP (io), 5 RC5 (io), 6 RC4/C2OUT (io), 7 RC3 (io), 8 RC2 (io), 9 RC1/C2IN- (io), 10 RC0/C2IN+ (io), 11 RA2/T0CKI/INT/C1OUT (io), 12 RA1/C1IN-/VREF/ICSPCLK (io), 13 RA0/C1IN+/ICSPDAT/ULPWU (io), 14 VSS (power)

## PIC16F639-I/SS
designator U?
Flash-Based 8-Bit CMOS Microcontroller with nanoWatt Technology, 2K (x14-Bit words) Program Memory, 384 Bytes Data Memory, 12 I/O pins, 20-Pin SSOP, Standard VDD Range, Industrial Temperature; Manufacturer: Microchip; PartNumber: PIC16F639-I/SS; DatasheetVersion: revD, Mar-2007; PackageVersion: revBB, Aug-2009; PackageReference: SSOP-SS20; PackageDescription: 20-Lead Plastic Shrink Small Outline (SS) - 5.3mm Body [SSOP]; Supplier 1: Digi-Key; Supplier Part Number 1: PIC16F639-I/SS-ND; Supplier 2: Farnell; Supplier Part Number 2: 1556176; Supplier 3: Newark; Supplier Part Number 3: 89H0492; Supplier 4: Mouser; Supplier Part Number 4: 579-PIC16F639-I/SS; Code_JEDEC: MO-150; ComponentLink1Description: Manufacturer URL; ComponentLink1URL: http://www.microchip.com/; ComponentLink2Description: Datasheet; ComponentLink2URL: http://ww1.microchip.com/downloads/en/DeviceDoc/41232D.pdf; ComponentLink3Description: Package Specification; ComponentLink3URL: http://www.microchip.com/stellent/groups/techpub_sg/documents/packagingspec/en012702.pdf
footprint SSOP-SS20_N (SOP, 20-Leads, Body 7.2x5.2mm, Pitch 0.65mm, IPC Medium Density)
footprint SSOP-SS20_L (SOP, 20-Leads, Body 7.2x5.2mm, Pitch 0.65mm, IPC High Density)
footprint SSOP-SS20_M (SOP, 20-Leads, Body 7.2x5.2mm, Pitch 0.65mm, IPC Low Density)
pins: 1 VDD (power), 2 RA5/T1CKI/OSC1/CLKIN (io), 3 RA4/~{T1G}/OSC2/CLKOUT (io), 4 RA3/~{MCLR}/VPP (io), 5 RC5 (io), 6 RC4/C2OUT (io), 7 RC3/LFDATA/RSSI/CCLK/SDIO (io), 8 VDDT (power), 9 LCZ (in), 10 LCY (in), 11 LCX (in), 12 LCCOM (in), 13 VSST (power), 14 RC2/SCLK/~{ALERT} (io), 15 RC1/C2IN-/~{CS} (io), 16 RC0/C2IN+ (io), 17 RA2/TOCKI/INT/C1OUT (io), 18 RA1/C1IN-/VREF/ICSPCLK (io), 19 RA0/C1IN+/ICSPDAT/ULPWU (io), 20 VSS (power)

## PIC16F639T-I/SS
designator U?
Flash-Based 8-Bit CMOS Microcontroller with nanoWatt Technology, 2K (x14-Bit words) Program Memory, 384 Bytes Data Memory, 12 I/O pins, 20-Pin SSOP, Standard VDD Range, Industrial Temperature, Tape and Reel; Manufacturer: Microchip; PartNumber: PIC16F639T-I/SS; DatasheetVersion: revD, Mar-2007; PackageVersion: revBB, Aug-2009; PackageReference: SSOP-SS20; PackageDescription: 20-Lead Plastic Shrink Small Outline (SS) - 5.3mm Body [SSOP]; Supplier 1: Digi-Key; Supplier Part Number 1: PIC16F639T-I/SS-ND; Supplier 2: Mouser; Supplier Part Number 2: 579-PIC16F639T-I/SS; Code_JEDEC: MO-150; ComponentLink1Description: Manufacturer URL; ComponentLink1URL: http://www.microchip.com/; ComponentLink2Description: Datasheet; ComponentLink2URL: http://ww1.microchip.com/downloads/en/DeviceDoc/41232D.pdf; ComponentLink3Description: Package Specification; ComponentLink3URL: http://www.microchip.com/stellent/groups/techpub_sg/documents/packagingspec/en012702.pdf
footprint SSOP-SS20_N (SOP, 20-Leads, Body 7.2x5.2mm, Pitch 0.65mm, IPC Medium Density)
footprint SSOP-SS20_L (SOP, 20-Leads, Body 7.2x5.2mm, Pitch 0.65mm, IPC High Density)
footprint SSOP-SS20_M (SOP, 20-Leads, Body 7.2x5.2mm, Pitch 0.65mm, IPC Low Density)
pins: 1 VDD (power), 2 RA5/T1CKI/OSC1/CLKIN (io), 3 RA4/~{T1G}/OSC2/CLKOUT (io), 4 RA3/~{MCLR}/VPP (io), 5 RC5 (io), 6 RC4/C2OUT (io), 7 RC3/LFDATA/RSSI/CCLK/SDIO (io), 8 VDDT (power), 9 LCZ (in), 10 LCY (in), 11 LCX (in), 12 LCCOM (in), 13 VSST (power), 14 RC2/SCLK/~{ALERT} (io), 15 RC1/C2IN-/~{CS} (io), 16 RC0/C2IN+ (io), 17 RA2/TOCKI/INT/C1OUT (io), 18 RA1/C1IN-/VREF/ICSPCLK (io), 19 RA0/C1IN+/ICSPDAT/ULPWU (io), 20 VSS (power)

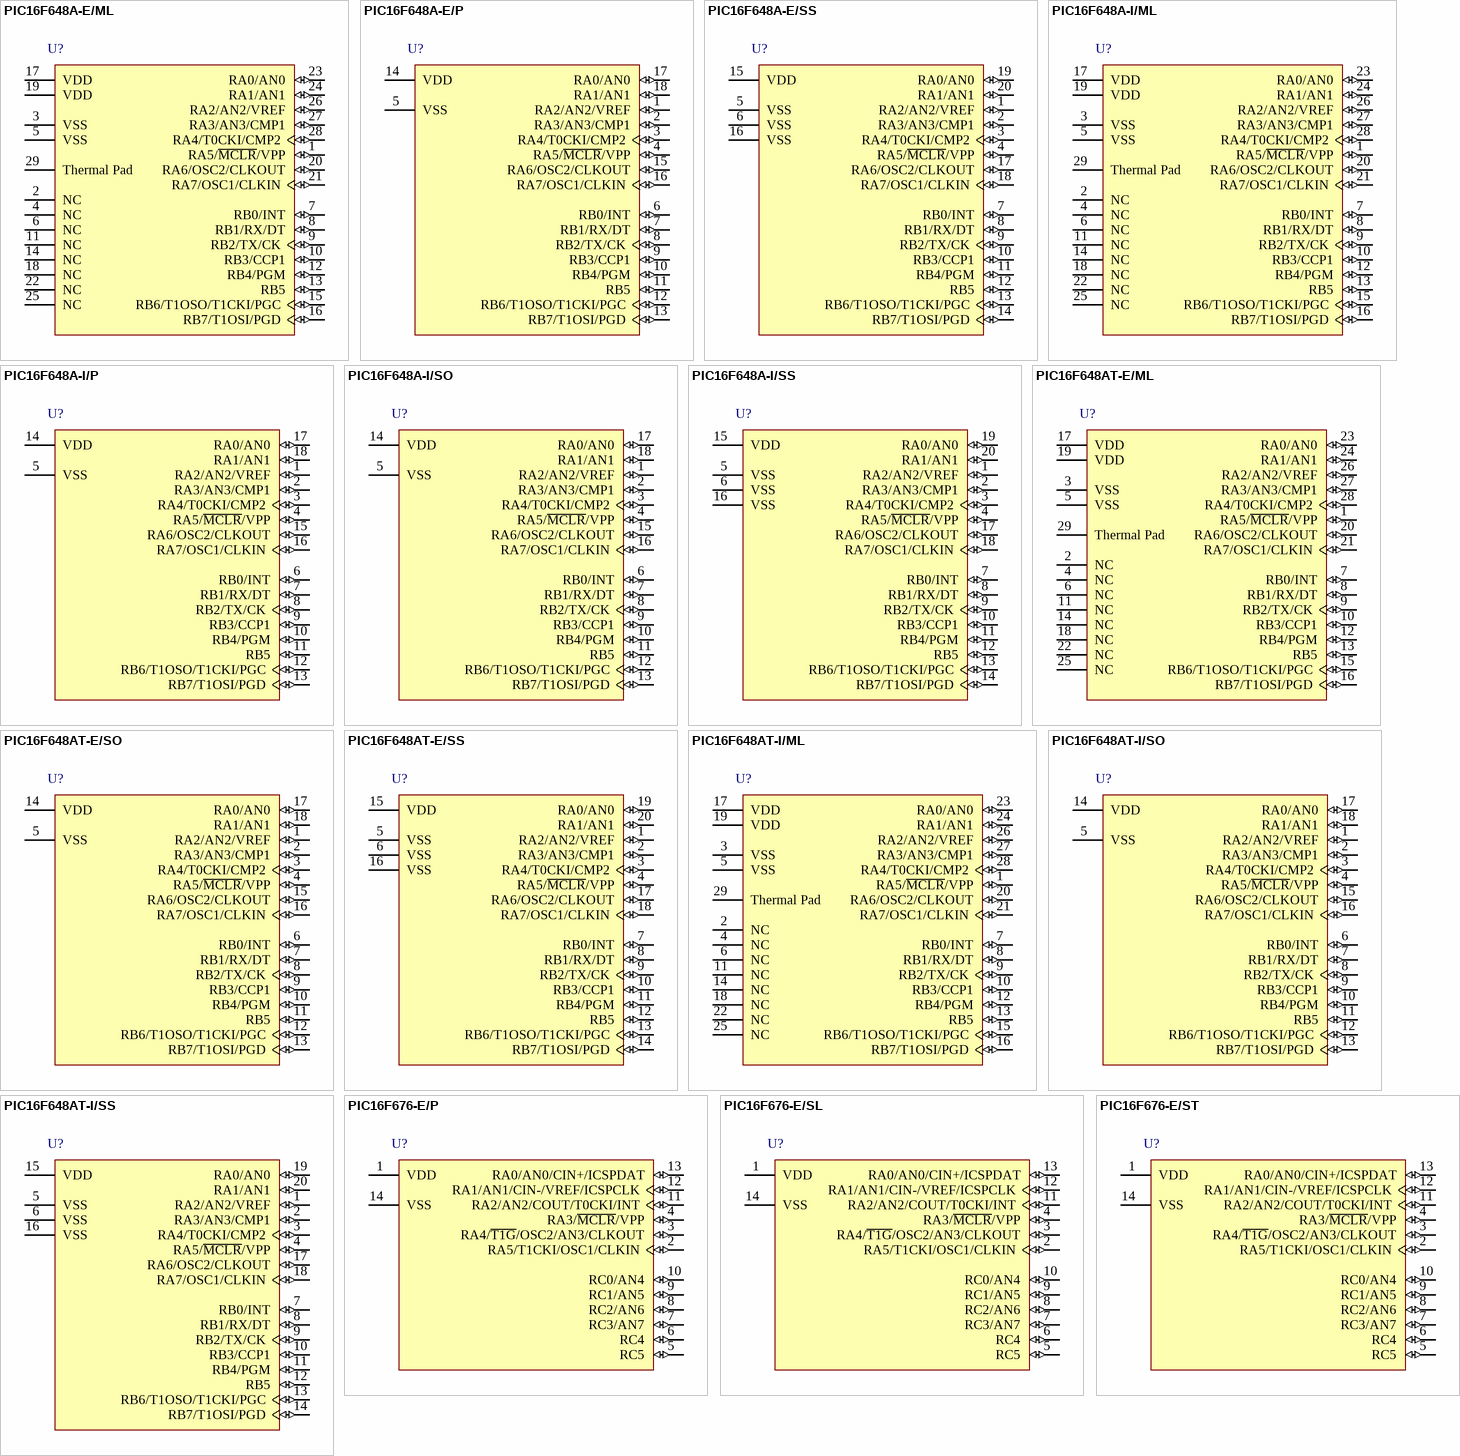
[diagram p39: symbols PIC16F648A-E/ML to PIC16F676-E/ST]

## PIC16F648A-E/ML
designator U?
FLASH-Based 8-Bit CMOS Microcontroller with nanoWatt Technology, 4K (x14-Bit words) FLASH, 256 Bytes SRAM, 28-Pin QFN, 3.0 to 5.5V Supply Range, Extended Temperature; Manufacturer: Microchip; PartNumber: PIC16F648A-E/ML; DatasheetVersion: revF, Mar-2007; PackageVersion: revBB, Aug-2009; PackageReference: QFN-ML28; PackageDescription: 28-Lead Plastic Quad Flat, No Lead Package (ML) - 6x6 mm Body [QFN] with 0.55 mm Contact Length; Supplier 1: Digi-Key; Supplier Part Number 1: PIC16F648A-E/ML-ND; Supplier 2: Mouser; Supplier Part Number 2: 579-PIC16F648A-E/ML; Code_JEDEC: MO-220; ComponentLink1Description: Manufacturer URL; ComponentLink1URL: http://www.microchip.com/; ComponentLink2Description: Datasheet; ComponentLink2URL: http://ww1.microchip.com/downloads/en/DeviceDoc/40044F.pdf; ComponentLink3Description: Package Specification; ComponentLink3URL: http://www.microchip.com/stellent/groups/techpub_sg/documents/packagingspec/en012702.pdf
footprint QFN-ML28_N (QFN, 28-Leads, Body 6x6mm, Pitch 0.65mm, Thermal Pad 4.2x4.2mm, IPC Medium Density)
footprint QFN-ML28_L (QFN, 28-Leads, Body 6x6mm, Pitch 0.65mm, Thermal Pad 4.2x4.2mm, IPC High Density)
footprint QFN-ML28_M (QFN, 28-Leads, Body 6x6mm, Pitch 0.65mm, Thermal Pad 4.2x4.2mm, IPC Low Density)
pins: 1 RA5/~{MCLR}/VPP (io), 2 NC, 3 VSS (power), 4 NC, 5 VSS (power), 6 NC, 7 RB0/INT (io), 8 RB1/RX/DT (io), 9 RB2/TX/CK (io), 10 RB3/CCP1 (io), 11 NC, 12 RB4/PGM (io), 13 RB5 (io), 14 NC, 15 RB6/T1OSO/T1CKI/PGC (io), 16 RB7/T1OSI/PGD (io), 17 VDD (power), 18 NC, 19 VDD (power), 20 RA6/OSC2/CLKOUT (io), 21 RA7/OSC1/CLKIN (io), 22 NC, 23 RA0/AN0 (io), 24 RA1/AN1 (io), 25 NC, 26 RA2/AN2/VREF (io), 27 RA3/AN3/CMP1 (io), 28 RA4/T0CKI/CMP2 (io), 29 Thermal Pad

## PIC16F648A-E/P
designator U?
FLASH-Based 8-Bit CMOS Microcontroller with nanoWatt Technology, 4K (x14-Bit words) FLASH, 256 Bytes SRAM, 18-Pin PDIP, 3.0 to 5.5V Supply Range, Extended Temperature; Manufacturer: Microchip; PartNumber: PIC16F648A-E/P; DatasheetVersion: revF, Mar-2007; PackageVersion: revBB, Aug-2009; PackageReference: PDIP300-P18; PackageDescription: 18-Lead Plastic Dual In-Line (P) - 300 mil Body [PDIP]; Supplier 1: Digi-Key; Supplier Part Number 1: PIC16F648A-E/P-ND; Supplier 2: Farnell; Supplier Part Number 2: 1846911; Supplier 3: Newark; Supplier Part Number 3: 03H5928; Supplier 4: Mouser; Supplier Part Number 4: 579-PIC16F648A-E/P; Code_JEDEC: MS-001; ComponentLink1Description: Manufacturer URL; ComponentLink1URL: http://www.microchip.com/; ComponentLink2Description: Datasheet; ComponentLink2URL: http://ww1.microchip.com/downloads/en/DeviceDoc/40044F.pdf; ComponentLink3Description: Package Specification; ComponentLink3URL: http://www.microchip.com/stellent/groups/techpub_sg/documents/packagingspec/en012702.pdf
footprint PDIP300-P18 (DIP, 18-Leads, Row Spacing 7.62mm, Pitch 2.54mm, Body 22.9x6.6mm)
pins: 1 RA2/AN2/VREF (io), 2 RA3/AN3/CMP1 (io), 3 RA4/T0CKI/CMP2 (io), 4 RA5/~{MCLR}/VPP (io), 5 VSS (power), 6 RB0/INT (io), 7 RB1/RX/DT (io), 8 RB2/TX/CK (io), 9 RB3/CCP1 (io), 10 RB4/PGM (io), 11 RB5 (io), 12 RB6/T1OSO/T1CKI/PGC (io), 13 RB7/T1OSI/PGD (io), 14 VDD (power), 15 RA6/OSC2/CLKOUT (io), 16 RA7/OSC1/CLKIN (io), 17 RA0/AN0 (io), 18 RA1/AN1 (io)

## PIC16F648A-E/SS
designator U?
FLASH-Based 8-Bit CMOS Microcontroller with nanoWatt Technology, 4K (x14-Bit words) FLASH, 256 Bytes SRAM, 20-Pin SSOP, 3.0 to 5.5V Supply Range, Extended Temperature; Manufacturer: Microchip; PartNumber: PIC16F648A-E/SS; DatasheetVersion: revF, Mar-2007; PackageVersion: revBB, Aug-2009; PackageReference: SSOP-SS20; PackageDescription: 20-Lead Plastic Shrink Small Outline (SS) - 5.3mm Body [SSOP]; Supplier 1: Digi-Key; Supplier Part Number 1: PIC16F648A-E/SS-ND; Supplier 2: Mouser; Supplier Part Number 2: 579-PIC16F648A-E/SS; Code_JEDEC: MO-150; ComponentLink1Description: Manufacturer URL; ComponentLink1URL: http://www.microchip.com/; ComponentLink2Description: Datasheet; ComponentLink2URL: http://ww1.microchip.com/downloads/en/DeviceDoc/40044F.pdf; ComponentLink3Description: Package Specification; ComponentLink3URL: http://www.microchip.com/stellent/groups/techpub_sg/documents/packagingspec/en012702.pdf
footprint SSOP-SS20_N (SOP, 20-Leads, Body 7.2x5.2mm, Pitch 0.65mm, IPC Medium Density)
footprint SSOP-SS20_L (SOP, 20-Leads, Body 7.2x5.2mm, Pitch 0.65mm, IPC High Density)
footprint SSOP-SS20_M (SOP, 20-Leads, Body 7.2x5.2mm, Pitch 0.65mm, IPC Low Density)
pins: 1 RA2/AN2/VREF (io), 2 RA3/AN3/CMP1 (io), 3 RA4/T0CKI/CMP2 (io), 4 RA5/~{MCLR}/VPP (io), 5 VSS (power), 6 VSS (power), 7 RB0/INT (io), 8 RB1/RX/DT (io), 9 RB2/TX/CK (io), 10 RB3/CCP1 (io), 11 RB4/PGM (io), 12 RB5 (io), 13 RB6/T1OSO/T1CKI/PGC (io), 14 RB7/T1OSI/PGD (io), 15 VDD (power), 16 VSS (power), 17 RA6/OSC2/CLKOUT (io), 18 RA7/OSC1/CLKIN (io), 19 RA0/AN0 (io), 20 RA1/AN1 (io)

## PIC16F648A-I/ML
designator U?
FLASH-Based 8-Bit CMOS Microcontroller with nanoWatt Technology, 4K (x14-Bit words) FLASH, 256 Bytes SRAM, 28-Pin QFN, 3.0 to 5.5V Supply Range, Industrial Temperature; Manufacturer: Microchip; PartNumber: PIC16F648A-I/ML; DatasheetVersion: revF, Mar-2007; PackageVersion: revBB, Aug-2009; PackageReference: QFN-ML28; PackageDescription: 28-Lead Plastic Quad Flat, No Lead Package (ML) - 6x6 mm Body [QFN] with 0.55 mm Contact Length; Supplier 1: Digi-Key; Supplier Part Number 1: PIC16F648A-I/ML-ND; Supplier 2: Farnell; Supplier Part Number 2: 9760482; Supplier 3: Newark; Supplier Part Number 3: 03H5931; Supplier 4: Mouser; Supplier Part Number 4: 579-PIC16F648A-I/ML; Code_JEDEC: MO-220; ComponentLink1Description: Manufacturer URL; ComponentLink1URL: http://www.microchip.com/; ComponentLink2Description: Datasheet; ComponentLink2URL: http://ww1.microchip.com/downloads/en/DeviceDoc/40044F.pdf; ComponentLink3Description: Package Specification; ComponentLink3URL: http://www.microchip.com/stellent/groups/techpub_sg/documents/packagingspec/en012702.pdf
footprint QFN-ML28_N (QFN, 28-Leads, Body 6x6mm, Pitch 0.65mm, Thermal Pad 4.2x4.2mm, IPC Medium Density)
footprint QFN-ML28_L (QFN, 28-Leads, Body 6x6mm, Pitch 0.65mm, Thermal Pad 4.2x4.2mm, IPC High Density)
footprint QFN-ML28_M (QFN, 28-Leads, Body 6x6mm, Pitch 0.65mm, Thermal Pad 4.2x4.2mm, IPC Low Density)
pins: 1 RA5/~{MCLR}/VPP (io), 2 NC, 3 VSS (power), 4 NC, 5 VSS (power), 6 NC, 7 RB0/INT (io), 8 RB1/RX/DT (io), 9 RB2/TX/CK (io), 10 RB3/CCP1 (io), 11 NC, 12 RB4/PGM (io), 13 RB5 (io), 14 NC, 15 RB6/T1OSO/T1CKI/PGC (io), 16 RB7/T1OSI/PGD (io), 17 VDD (power), 18 NC, 19 VDD (power), 20 RA6/OSC2/CLKOUT (io), 21 RA7/OSC1/CLKIN (io), 22 NC, 23 RA0/AN0 (io), 24 RA1/AN1 (io), 25 NC, 26 RA2/AN2/VREF (io), 27 RA3/AN3/CMP1 (io), 28 RA4/T0CKI/CMP2 (io), 29 Thermal Pad

## PIC16F648A-I/P
designator U?
FLASH-Based 8-Bit CMOS Microcontroller with nanoWatt Technology, 4K (x14-Bit words) FLASH, 256 Bytes SRAM, 18-Pin PDIP, 3.0 to 5.5V Supply Range, Industrial Temperature; Manufacturer: Microchip; PartNumber: PIC16F648A-I/P; DatasheetVersion: revF, Mar-2007; PackageVersion: revBB, Aug-2009; PackageReference: PDIP300-P18; PackageDescription: 18-Lead Plastic Dual In-Line (P) - 300 mil Body [PDIP]; Supplier 1: Digi-Key; Supplier Part Number 1: PIC16F648A-I/P-ND; Supplier 2: Farnell; Supplier Part Number 2: 9760490; Supplier 3: Newark; Supplier Part Number 3: 69K7633; Supplier 4: Mouser; Supplier Part Number 4: 579-PIC16F648A-I/P; Code_JEDEC: MS-001; ComponentLink1Description: Manufacturer URL; ComponentLink1URL: http://www.microchip.com/; ComponentLink2Description: Datasheet; ComponentLink2URL: http://ww1.microchip.com/downloads/en/DeviceDoc/40044F.pdf; ComponentLink3Description: Package Specification; ComponentLink3URL: http://www.microchip.com/stellent/groups/techpub_sg/documents/packagingspec/en012702.pdf
footprint PDIP300-P18 (DIP, 18-Leads, Row Spacing 7.62mm, Pitch 2.54mm, Body 22.9x6.6mm)
pins: 1 RA2/AN2/VREF (io), 2 RA3/AN3/CMP1 (io), 3 RA4/T0CKI/CMP2 (io), 4 RA5/~{MCLR}/VPP (io), 5 VSS (power), 6 RB0/INT (io), 7 RB1/RX/DT (io), 8 RB2/TX/CK (io), 9 RB3/CCP1 (io), 10 RB4/PGM (io), 11 RB5 (io), 12 RB6/T1OSO/T1CKI/PGC (io), 13 RB7/T1OSI/PGD (io), 14 VDD (power), 15 RA6/OSC2/CLKOUT (io), 16 RA7/OSC1/CLKIN (io), 17 RA0/AN0 (io), 18 RA1/AN1 (io)

## PIC16F648A-I/SO
designator U?
FLASH-Based 8-Bit CMOS Microcontroller with nanoWatt Technology, 4K (x14-Bit words) FLASH, 256 Bytes SRAM, 18-Pin SOIC, 3.0 to 5.5V Supply Range, Industrial Temperature; Manufacturer: Microchip; PartNumber: PIC16F648A-I/SO; DatasheetVersion: revF, Mar-2007; PackageVersion: revBB, Aug-2009; PackageReference: SOIC-SO18; PackageDescription: 18-Lead Plastic Small Outline (SO) - Wide 7.50mm Body [SOIC]; Supplier 1: Digi-Key; Supplier Part Number 1: PIC16F648A-I/SO-ND; Supplier 2: Farnell; Supplier Part Number 2: 9760504; Supplier 3: Farnell; Supplier Part Number 3: 9760504MPKG; Supplier 4: Newark; Supplier Part Number 4: 03H5933; Supplier 5: Mouser; Supplier Part Number 5: 579-PIC16F648A-I/SO; Code_JEDEC: MS-013; ComponentLink1Description: Manufacturer URL; ComponentLink1URL: http://www.microchip.com/; ComponentLink2Description: Datasheet; ComponentLink2URL: http://ww1.microchip.com/downloads/en/DeviceDoc/40044F.pdf; ComponentLink3Description: Package Specification; ComponentLink3URL: http://www.microchip.com/stellent/groups/techpub_sg/documents/packagingspec/en012702.pdf
footprint SOIC-SO18_N (SOIC, 18-Leads, Body 11.5x7.5mm, Pitch 1.27mm, IPC Medium Density)
footprint SOIC-SO18_L (SOIC, 18-Leads, Body 11.5x7.5mm, Pitch 1.27mm, IPC High Density)
footprint SOIC-SO18_M (SOIC, 18-Leads, Body 11.5x7.5mm, Pitch 1.27mm, IPC Low Density)
pins: 1 RA2/AN2/VREF (io), 2 RA3/AN3/CMP1 (io), 3 RA4/T0CKI/CMP2 (io), 4 RA5/~{MCLR}/VPP (io), 5 VSS (power), 6 RB0/INT (io), 7 RB1/RX/DT (io), 8 RB2/TX/CK (io), 9 RB3/CCP1 (io), 10 RB4/PGM (io), 11 RB5 (io), 12 RB6/T1OSO/T1CKI/PGC (io), 13 RB7/T1OSI/PGD (io), 14 VDD (power), 15 RA6/OSC2/CLKOUT (io), 16 RA7/OSC1/CLKIN (io), 17 RA0/AN0 (io), 18 RA1/AN1 (io)

## PIC16F648A-I/SS
designator U?
FLASH-Based 8-Bit CMOS Microcontroller with nanoWatt Technology, 4K (x14-Bit words) FLASH, 256 Bytes SRAM, 20-Pin SSOP, 3.0 to 5.5V Supply Range, Industrial Temperature; Manufacturer: Microchip; PartNumber: PIC16F648A-I/SS; DatasheetVersion: revF, Mar-2007; PackageVersion: revBB, Aug-2009; PackageReference: SSOP-SS20; PackageDescription: 20-Lead Plastic Shrink Small Outline (SS) - 5.3mm Body [SSOP]; Supplier 1: Digi-Key; Supplier Part Number 1: PIC16F648A-I/SS-ND; Supplier 2: Farnell; Supplier Part Number 2: 1137333; Supplier 3: Farnell; Supplier Part Number 3: 1137333MPKG; Supplier 4: Newark; Supplier Part Number 4: 96K3877; Supplier 5: Mouser; Supplier Part Number 5: 579-PIC16F648A-I/SS; Code_JEDEC: MO-150; ComponentLink1Description: Manufacturer URL; ComponentLink1URL: http://www.microchip.com/; ComponentLink2Description: Datasheet; ComponentLink2URL: http://ww1.microchip.com/downloads/en/DeviceDoc/40044F.pdf; ComponentLink3Description: Package Specification; ComponentLink3URL: http://www.microchip.com/stellent/groups/techpub_sg/documents/packagingspec/en012702.pdf
footprint SSOP-SS20_N (SOP, 20-Leads, Body 7.2x5.2mm, Pitch 0.65mm, IPC Medium Density)
footprint SSOP-SS20_L (SOP, 20-Leads, Body 7.2x5.2mm, Pitch 0.65mm, IPC High Density)
footprint SSOP-SS20_M (SOP, 20-Leads, Body 7.2x5.2mm, Pitch 0.65mm, IPC Low Density)
pins: 1 RA2/AN2/VREF (io), 2 RA3/AN3/CMP1 (io), 3 RA4/T0CKI/CMP2 (io), 4 RA5/~{MCLR}/VPP (io), 5 VSS (power), 6 VSS (power), 7 RB0/INT (io), 8 RB1/RX/DT (io), 9 RB2/TX/CK (io), 10 RB3/CCP1 (io), 11 RB4/PGM (io), 12 RB5 (io), 13 RB6/T1OSO/T1CKI/PGC (io), 14 RB7/T1OSI/PGD (io), 15 VDD (power), 16 VSS (power), 17 RA6/OSC2/CLKOUT (io), 18 RA7/OSC1/CLKIN (io), 19 RA0/AN0 (io), 20 RA1/AN1 (io)

## PIC16F648AT-E/ML
designator U?
FLASH-Based 8-Bit CMOS Microcontroller with nanoWatt Technology, 4K (x14-Bit words) FLASH, 256 Bytes SRAM, 28-Pin QFN, 3.0 to 5.5V Supply Range, Extensive Temperature, Tape and Reel; Manufacturer: Microchip; PartNumber: PIC16F648AT-E/ML; DatasheetVersion: revF, Mar-2007; PackageVersion: revBB, Aug-2009; PackageReference: QFN-ML28; PackageDescription: 28-Lead Plastic Quad Flat, No Lead Package (ML) - 6x6 mm Body [QFN] with 0.55 mm Contact Length; Supplier 1: Digi-Key; Supplier Part Number 1: PIC16F648AT-E/ML-ND; Supplier 2: Mouser; Supplier Part Number 2: 579-PIC16F648AT-E/ML; Code_JEDEC: MO-220; ComponentLink1Description: Manufacturer URL; ComponentLink1URL: http://www.microchip.com/; ComponentLink2Description: Datasheet; ComponentLink2URL: http://ww1.microchip.com/downloads/en/DeviceDoc/40044F.pdf; ComponentLink3Description: Package Specification; ComponentLink3URL: http://www.microchip.com/stellent/groups/techpub_sg/documents/packagingspec/en012702.pdf
footprint QFN-ML28_N (QFN, 28-Leads, Body 6x6mm, Pitch 0.65mm, Thermal Pad 4.2x4.2mm, IPC Medium Density)
footprint QFN-ML28_L (QFN, 28-Leads, Body 6x6mm, Pitch 0.65mm, Thermal Pad 4.2x4.2mm, IPC High Density)
footprint QFN-ML28_M (QFN, 28-Leads, Body 6x6mm, Pitch 0.65mm, Thermal Pad 4.2x4.2mm, IPC Low Density)
pins: 1 RA5/~{MCLR}/VPP (io), 2 NC, 3 VSS (power), 4 NC, 5 VSS (power), 6 NC, 7 RB0/INT (io), 8 RB1/RX/DT (io), 9 RB2/TX/CK (io), 10 RB3/CCP1 (io), 11 NC, 12 RB4/PGM (io), 13 RB5 (io), 14 NC, 15 RB6/T1OSO/T1CKI/PGC (io), 16 RB7/T1OSI/PGD (io), 17 VDD (power), 18 NC, 19 VDD (power), 20 RA6/OSC2/CLKOUT (io), 21 RA7/OSC1/CLKIN (io), 22 NC, 23 RA0/AN0 (io), 24 RA1/AN1 (io), 25 NC, 26 RA2/AN2/VREF (io), 27 RA3/AN3/CMP1 (io), 28 RA4/T0CKI/CMP2 (io), 29 Thermal Pad

## PIC16F648AT-E/SO
designator U?
FLASH-Based 8-Bit CMOS Microcontroller with nanoWatt Technology, 4K (x14-Bit words) FLASH, 256 Bytes SRAM, 18-Pin SOIC, 3.0 to 5.5V Supply Range, Extended Temperature, Tape and Reel; Manufacturer: Microchip; PartNumber: PIC16F648AT-E/SO; DatasheetVersion: revF, Mar-2007; PackageVersion: revBB, Aug-2009; PackageReference: SOIC-SO18; PackageDescription: 18-Lead Plastic Small Outline (SO) - Wide 7.50mm Body [SOIC]; Supplier 1: Digi-Key; Supplier Part Number 1: PIC16F648AT-E/SO-ND; Supplier 2: Mouser; Supplier Part Number 2: 579-PIC16F648AT-E/SO; Code_JEDEC: MS-013; ComponentLink1Description: Manufacturer URL; ComponentLink1URL: http://www.microchip.com/; ComponentLink2Description: Datasheet; ComponentLink2URL: http://ww1.microchip.com/downloads/en/DeviceDoc/40044F.pdf; ComponentLink3Description: Package Specification; ComponentLink3URL: http://www.microchip.com/stellent/groups/techpub_sg/documents/packagingspec/en012702.pdf
footprint SOIC-SO18_N (SOIC, 18-Leads, Body 11.5x7.5mm, Pitch 1.27mm, IPC Medium Density)
footprint SOIC-SO18_L (SOIC, 18-Leads, Body 11.5x7.5mm, Pitch 1.27mm, IPC High Density)
footprint SOIC-SO18_M (SOIC, 18-Leads, Body 11.5x7.5mm, Pitch 1.27mm, IPC Low Density)
pins: 1 RA2/AN2/VREF (io), 2 RA3/AN3/CMP1 (io), 3 RA4/T0CKI/CMP2 (io), 4 RA5/~{MCLR}/VPP (io), 5 VSS (power), 6 RB0/INT (io), 7 RB1/RX/DT (io), 8 RB2/TX/CK (io), 9 RB3/CCP1 (io), 10 RB4/PGM (io), 11 RB5 (io), 12 RB6/T1OSO/T1CKI/PGC (io), 13 RB7/T1OSI/PGD (io), 14 VDD (power), 15 RA6/OSC2/CLKOUT (io), 16 RA7/OSC1/CLKIN (io), 17 RA0/AN0 (io), 18 RA1/AN1 (io)